# Altium footprint library BQ24170.PcbLib: 1 footprints
Each footprint in its own frame and in the unit in brackets; x right, y up, seen from the top. Pads: shape width x height; smd on the part's side, far side on the other; paste and mask are expansions set on the pad; w line width, h text height; cw(c..) or ccw(c..) is an arc to the next point about the centre after c.
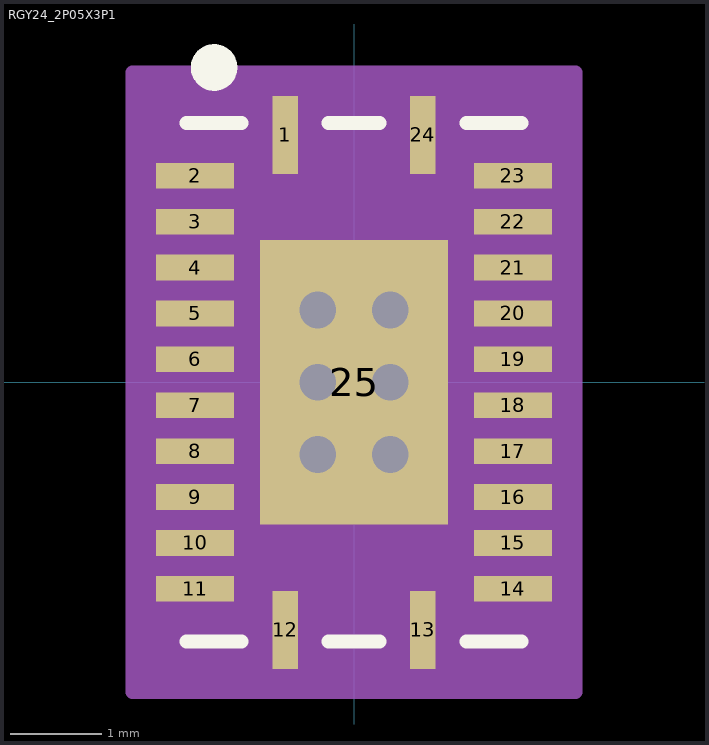
[diagram p0: the footprint, top view; thin cyan lines are the x and y axes]

## RGY24_2P05X3P1 [mm]
pads (25):
  rect 0.28x0.85 smd paste-0.14: 1(-0.75,2.696) 12(-0.75,-2.696) 13(0.75,-2.696) 24(0.75,2.696)
  rect 0.85x0.28 smd paste-0.14: 2(-1.731,2.25) 3(-1.731,1.75) 4(-1.731,1.25) 5(-1.731,0.75) 6(-1.731,0.25) 7(-1.731,-0.25) 8(-1.731,-0.75) 9(-1.731,-1.25) 10(-1.731,-1.75) 11(-1.731,-2.25) 14(1.731,-2.25) 15(1.731,-1.75) 16(1.731,-1.25) 17(1.731,-0.75) 18(1.731,-0.25) 19(1.731,0.25) 20(1.731,0.75) 21(1.731,1.25) 22(1.731,1.75) 23(1.731,2.25)
  rect 2.05x3.1 smd paste-1.537 mask-1.537: 25(0,0)
via -0.394,0.787 diameter 0.8 hole 0.4
via 0.394,0.787 diameter 0.8 hole 0.4
via -0.394,0 diameter 0.8 hole 0.4
via 0.394,0 diameter 0.8 hole 0.4
via -0.394,-0.787 diameter 0.8 hole 0.4
via 0.394,-0.787 diameter 0.8 hole 0.4
Top Overlay:
  circle w0.254: c-1.524,3.429 r0.127
  lines w0.152: -1.825,-2.825 -1.223,-2.825 ; -1.825,2.825 -1.223,2.825 ; -0.277,-2.825 0.277,-2.825 ; -0.277,2.825 0.277,2.825 ; 1.223,-2.825 1.825,-2.825 ; 1.223,2.825 1.825,2.825
Top Paste:
  drawing of 36 lines, arcs and shapes, not listed
Top Solder:
  region: 0.594,-1.613 0.594,1.613 1.088,1.613 1.088,-1.613
  region: 0.194,-1.613 0.194,1.613 -0.194,1.613 -0.194,-1.613
  region: -1.088,-1.613 -1.088,1.613 -0.594,1.613 -0.594,-1.613
  region: -1.088,-1.613 -1.088,-0.987 1.088,-0.987 1.088,-1.613
  region: -1.088,-0.587 -1.088,-0.2 1.088,-0.2 1.088,-0.587
  region: -1.088,0.2 -1.088,0.587 1.088,0.587 1.088,0.2
  region: -1.088,0.987 -1.088,1.613 1.088,1.613 1.088,0.987
  region: -0.54,3.191 -0.96,3.191 -0.96,2.201 -0.54,2.201
  region: 0.96,3.191 0.54,3.191 0.54,2.201 0.96,2.201
  region: 2.226,2.46 1.236,2.46 1.236,2.04 2.226,2.04
  region: 2.226,1.96 1.236,1.96 1.236,1.54 2.226,1.54
  region: 2.226,1.46 1.236,1.46 1.236,1.04 2.226,1.04
  region: 2.226,0.96 1.236,0.96 1.236,0.54 2.226,0.54
  region: 2.226,0.46 1.236,0.46 1.236,0.04 2.226,0.04
  region: 2.226,-0.04 1.236,-0.04 1.236,-0.46 2.226,-0.46
  region: 2.226,-0.54 1.236,-0.54 1.236,-0.96 2.226,-0.96
  region: 2.226,-1.04 1.236,-1.04 1.236,-1.46 2.226,-1.46
  region: 2.226,-1.54 1.236,-1.54 1.236,-1.96 2.226,-1.96
  region: 2.226,-2.04 1.236,-2.04 1.236,-2.46 2.226,-2.46
  region: 0.96,-2.201 0.54,-2.201 0.54,-3.191 0.96,-3.191
  region: -0.54,-2.201 -0.96,-2.201 -0.96,-3.191 -0.54,-3.191
  region: -1.236,-2.04 -2.226,-2.04 -2.226,-2.46 -1.236,-2.46
  region: -1.236,-1.54 -2.226,-1.54 -2.226,-1.96 -1.236,-1.96
  region: -1.236,-1.04 -2.226,-1.04 -2.226,-1.46 -1.236,-1.46
  region: -1.236,-0.54 -2.226,-0.54 -2.226,-0.96 -1.236,-0.96
  region: -1.236,-0.04 -2.226,-0.04 -2.226,-0.46 -1.236,-0.46
  region: -1.236,0.46 -2.226,0.46 -2.226,0.04 -1.236,0.04
  region: -1.236,0.96 -2.226,0.96 -2.226,0.54 -1.236,0.54
  region: -1.236,1.46 -2.226,1.46 -2.226,1.04 -1.236,1.04
  region: -1.236,1.96 -2.226,1.96 -2.226,1.54 -1.236,1.54
  region: -1.236,2.46 -2.226,2.46 -2.226,2.04 -1.236,2.04
Mechanical 15:
  region: 2.41,-3.375 -2.41,-3.375 -2.41,3.375 2.41,3.375
  lines w0.152: -2.41,-3.375 2.41,-3.375 2.41,3.375 -2.41,3.375 -2.41,-3.375
3D body "RGY24_2P05X3P1.stp": height 1, standoff -0.05, extent -1.876,-2.876 1.876,2.876